# Altium footprint library FootPrint_lib.PcbLib: 24 footprints (part 1 of 2)
Each footprint in its own frame and in the unit in brackets; x right, y up, seen from the top. Pads: shape width x height; smd on the part's side, far side on the other; paste and mask are expansions set on the pad; w line width, h text height; cw(c..) or ccw(c..) is an arc to the next point about the centre after c.
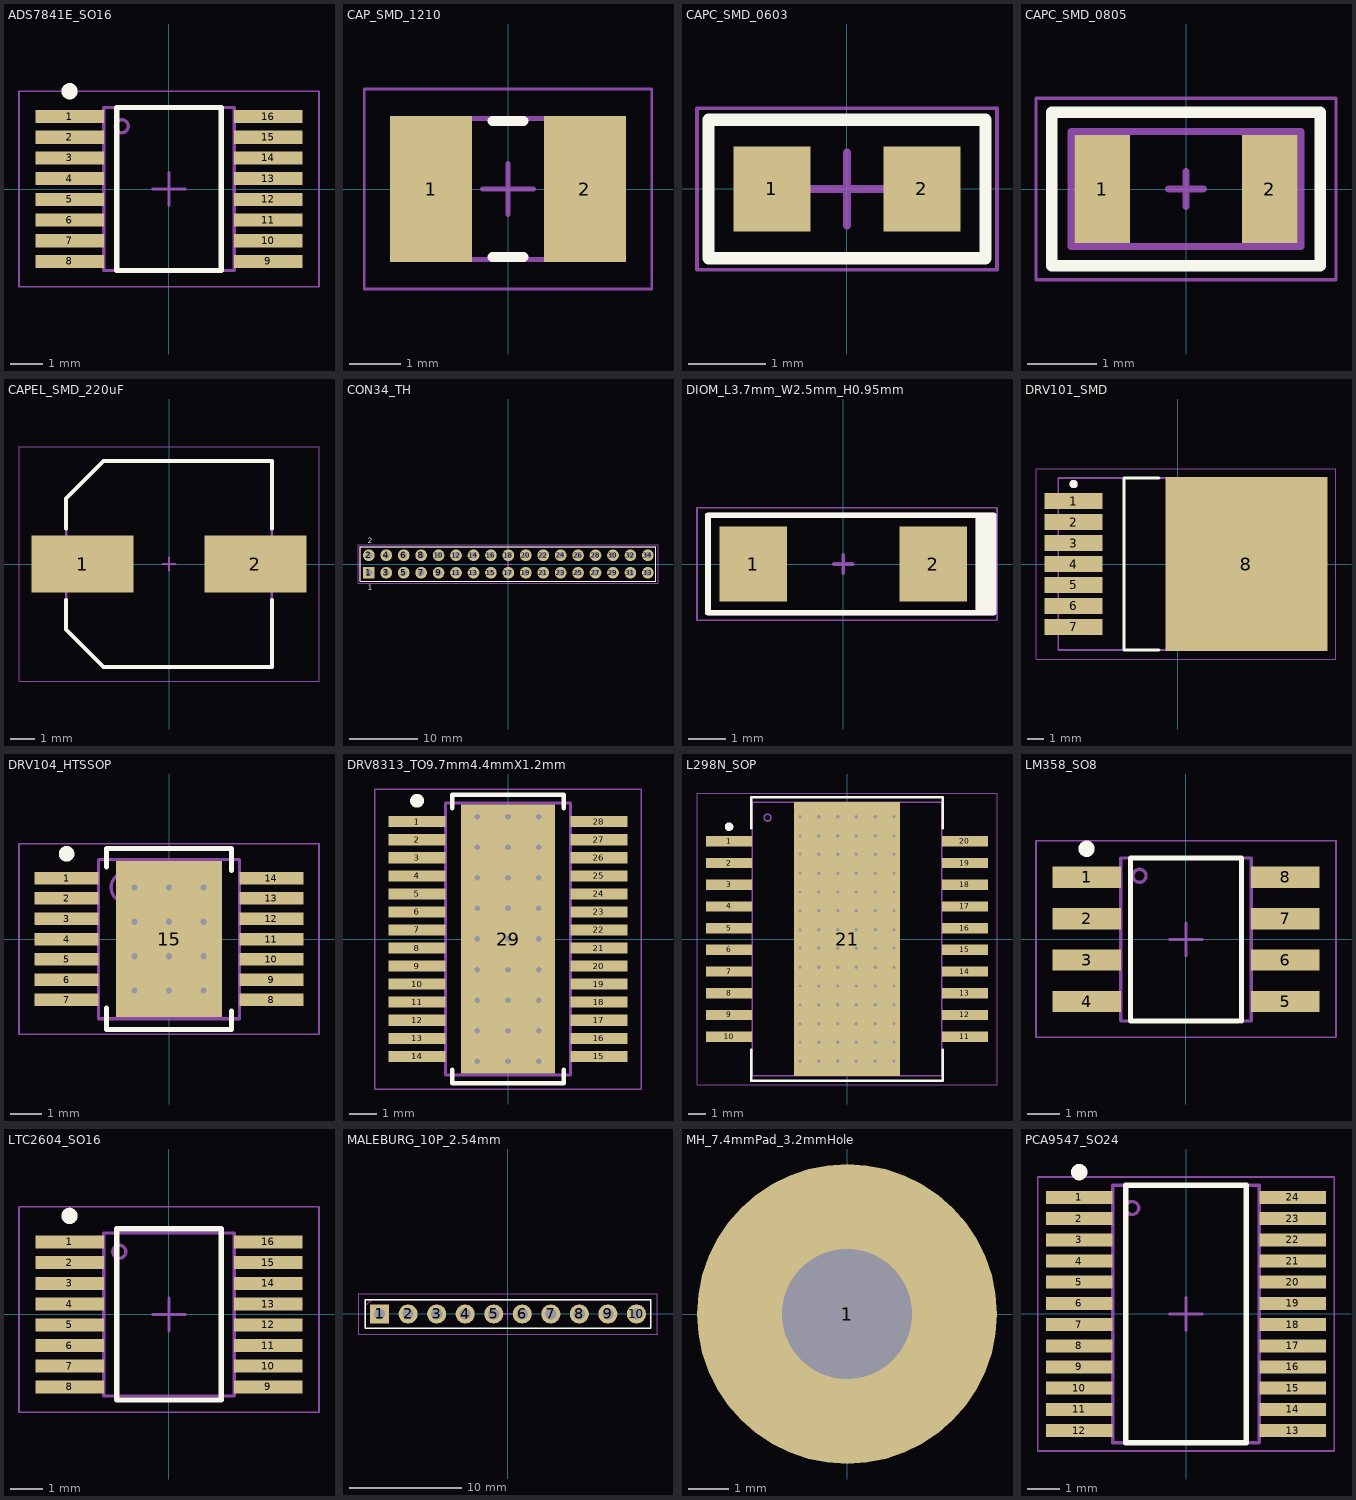
[diagram p0: the footprints below, top view; thin cyan lines are the x and y axes]

## ADS7841E_SO16 [mm]
height 1.75
pads (16):
  rect 2.1x0.4 smd: 1(-3.05,2.222) 2(-3.05,1.587) 3(-3.05,0.953) 4(-3.05,0.318) 5(-3.05,-0.318) 6(-3.05,-0.953) 7(-3.05,-1.587) 8(-3.05,-2.222) 9(3.05,-2.222) 10(3.05,-1.587) 11(3.05,-0.953) 12(3.05,-0.318) 13(3.05,0.318) 14(3.05,0.953) 15(3.05,1.587) 16(3.05,2.222)
Top Overlay:
  circle w0.25: c-3.05,2.997 r0.125
  lines w0.16: -1.6,-2.5 -1.6,2.5 1.6,2.5 1.6,-2.5 -1.6,-2.5
Top Assembly:
  circle w0.1: c-1.45,1.925 r0.2
  lines w0.1: -2,-2.5 -2,2.5 2,2.5 2,-2.5 -2,-2.5
  text "'.Designator'" at -1.921,-0.963 h1.52
Top Courtyard:
  lines w0.05: -4.6,-3 -4.6,3 4.6,3 4.6,-3 -4.6,-3
Top Component Center:
  lines w0.1: -0.5,0 0.5,0 ; 0,-0.5 0,0.5
3D body "SOP127P600-8N.step": height 1.75, standoff 0, extent -3,-2.5 3,2.5

## CAP_SMD_1210 [mm] "Chip Capacitor, 2-Leads, Body 3.20x2.50mm, IPC Low Density"
height 1.7
pads (2):
  rect 1.6x2.85 smd: 1(-1.5,0) 2(1.5,0)
Top Overlay:
  lines w0.2: -0.3,-1.325 0.3,-1.325 ; -0.3,1.325 0.3,1.325
Top Assembly:
  lines w0.1: -1.725,-1.375 1.725,-1.375 1.725,1.375 -1.725,1.375 -1.725,-1.375
Top Courtyard:
  lines w0.05: -2.8,-1.95 2.8,-1.95 2.8,1.95 -2.8,1.95 -2.8,-1.95
Top Component Center:
  lines w0.1: -0.5,0 0.5,0 ; 0,-0.5 0,0.5
3D body "CAP_10uF_1210.step": height 1.7, standoff 0, extent -1.725,-1.375 1.725,1.375

## CAPC_SMD_0603 [mm] "Chip Capacitor, 2-Leads, Body 1.60x0.80mm, IPC Low Density"
height 0.97
pads (2):
  rect 1x1.1 smd: 1(-0.975,0) 2(0.975,0)
Top Overlay:
  lines w0.16: -1.8,-0.9 -1.8,0.9 1.8,0.9 1.8,-0.9 -1.8,-0.9
Top Assembly:
  lines w0.1: -1.8,-0.9 -1.8,0.9 1.8,0.9 1.8,-0.9 -1.8,-0.9
  text "'.Designator'" at -1.646,-0.763 h1.52
Top Courtyard:
  lines w0.05: -1.95,-1.05 1.95,-1.05 1.95,1.05 -1.95,1.05 -1.95,-1.05
Top Component Center:
  lines w0.1: -0.475,0 0.475,0 ; 0,-0.475 0,0.475
3D body "CAPC_SMD_0603.step": height 0.97, standoff 0, extent -0.875,-0.475 0.875,0.475

## CAPC_SMD_0805 [mm] "Chip Capacitor, 2-Leads, Body 2.00x1.25mm, IPC Low Density"
height 1.45
pads (2):
  rect 0.8x1.55 smd: 1(-1.2,0) 2(1.2,0)
Top Overlay:
  lines w0.16: -1.925,-1.1 1.925,-1.1 1.925,1.1 -1.925,1.1 -1.925,-1.1
Top Assembly:
  lines w0.1: -1.65,-0.825 1.65,-0.825 1.65,0.825 -1.65,0.825 -1.65,-0.825
  text "'.Designator'" at -1.371,-0.888 h1.52
Top Courtyard:
  lines w0.05: -2.15,-1.3 2.15,-1.3 2.15,1.3 -2.15,1.3 -2.15,-1.3
Top Component Center:
  lines w0.1: -0.25,0 0.25,0 ; 0,-0.25 0,0.25
3D body "CAP_SMD_0805.step": height 1.45, standoff 0, extent -1.1,-0.725 1.1,0.725

## CAPEL_SMD_220uF [mm] "Aluminum Electrolytic Capacitor, Body 8.30x8.30x10.30mm, IPC Low Density"
height 10.3
pads (2):
  rect 4.2x2.35 smd: 1(-3.575,0) 2(3.575,0)
Top Overlay:
  lines w0.16: -4.25,-1.475 -4.25,-2.713 -2.712,-4.25 4.25,-4.25 4.25,-1.475 ; -4.25,1.475 -4.25,2.712 -2.712,4.25 4.25,4.25 4.25,1.475
Top Assembly:
  lines w0.1: -4.25,-2.713 -4.25,2.712 -2.712,4.25 4.25,4.25 4.25,-4.25 -2.712,-4.25 -4.25,-2.713
  text "'.Designator'" at -3.996,-0.738 h1.52
Top Courtyard:
  lines w0.05: -6.2,-4.85 6.2,-4.85 6.2,4.85 -6.2,4.85 -6.2,-4.85
Top Component Center:
  lines w0.1: -0.25,0 0.25,0 ; 0,-0.25 0,0.25
3D body "CAPEL_SMD_220uF.step": height 10.3, standoff 0, extent -4.55,-4.25 4.55,4.25

## CON34_TH [mm] "43.1mm"
height 12.19
pads (34):
  rect 1.7x1.7 hole 1: 1(-20.32,-1.27)
  round 1.7 hole 1: 2(-20.32,1.27) 3(-17.78,-1.27) 4(-17.78,1.27) 5(-15.24,-1.27) 6(-15.24,1.27) 7(-12.7,-1.27) 8(-12.7,1.27) 9(-10.16,-1.27) 10(-10.16,1.27) 11(-7.62,-1.27) 12(-7.62,1.27) 13(-5.08,-1.27) 14(-5.08,1.27) 15(-2.54,-1.27) 16(-2.54,1.27) 17(0,-1.27) 18(0,1.27) 19(2.54,-1.27) 20(2.54,1.27) 21(5.08,-1.27) 22(5.08,1.27) 23(7.62,-1.27) 24(7.62,1.27) 25(10.16,-1.27) 26(10.16,1.27) 27(12.7,-1.27) 28(12.7,1.27) 29(15.24,-1.27) 30(15.24,1.27) 31(17.78,-1.27) 32(17.78,1.27) 33(20.32,-1.27) 34(20.32,1.27)
Top Overlay:
  lines w0.16: -21.6,-2.5 21.5,-2.5 21.5,2.5 -21.6,2.5 -21.6,-2.5
  text "1" at -20.5,-3.8 h0.8
  text "2" at -20.5,3 h0.8
Top Assembly:
  lines w0.1: -21.6,-2.5 21.5,-2.5 21.5,2.5 -21.6,2.5 -21.6,-2.5
  text "'.Designator'" at -9.846,-0.438 h1.52
Top Courtyard:
  lines w0.05: -21.9,-2.8 -21.9,2.8 21.8,2.8 21.8,-2.8 -21.9,-2.8
Top Component Center:
  lines w0.05: -0.5,0 0.5,0 ; 0,-0.5 0,0.5
3D body "34Pin_2Row_2.54mm-03.10.2020.STEP": height 12.19, standoff -3.81, extent -21.59,-2.415 21.59,2.415

## DIOM_L3.7mm_W2.5mm_H0.95mm [mm] "RFN1LAM7S"
height 0.95
pads (2):
  rect 1.8x2 smd: 1(-2.4,0) 2(2.4,0)
Top Overlay:
  rectangle: 3.6,-1.3 4,1.3
  lines w0.16: 3.6,-1.3 3.6,1.3 ; 3.6,-1.3 -3.6,-1.3 -3.6,1.3 3.6,1.3 ; 3.6,-1.3 4,-1.3 4,1.3 3.6,1.3
Top Assembly:
  rectangle: 3.6,-1.3 4,1.3
  lines w0.16: 3.6,-1.3 3.6,1.3 ; 3.6,-1.3 -3.6,-1.3 -3.6,1.3 3.6,1.3 ; 3.6,-1.3 4,-1.3 4,1.3 3.6,1.3
  text "'.Designator'" at -3.496,-0.738 h1.52
Top Courtyard:
  lines w0.05: -3.9,-1.5 -3.9,1.5 4.1,1.5 4.1,-1.5 -3.9,-1.5
Top Component Center:
  lines w0.1: -0.25,0 0.25,0 ; 0,-0.25 0,0.25

## DRV101_SMD [mm] "D2-PAK, 8-Pads, Body 7.80x8.57mm (max), IPC Medium Density"
height 4.65
pads (8):
  rect 3.5x0.95 smd: 1(-6.3,3.81) 2(-6.3,2.54) 3(-6.3,1.27) 4(-6.3,0) 5(-6.3,-1.27) 6(-6.3,-2.54) 7(-6.3,-3.81)
  rect 9.8x10.5 smd: 8(4.15,0)
Top Overlay:
  circle w0.25: c-6.3,4.835 r0.125
  lines w0.2: -1.15,-5.2 -3.25,-5.2 -3.25,5.2 -1.15,5.2
Top Assembly:
  circle w0.25: c-6.3,4.835 r0.125
  lines w0.1: -7.225,-5.2 7.675,-5.2 7.675,5.2 -7.225,5.2 -7.225,-5.2
  text "'.Designator'" at -7.071,-0.763 h1.52
Top Courtyard:
  lines w0.05: -8.575,-5.775 9.575,-5.775 9.575,5.775 -8.575,5.775 -8.575,-5.775
Top Component Center:
  lines w0.1: -0.5,0 0.5,0 ; 0,-0.5 0,0.5
3D body "DRV101_SMD.step": height 4.95, standoff 0, extent -7.397,-5.2 7.843,5.2

## DRV104_HTSSOP [mm] "TSOP, 14-Leads, Body 5.00x4.40mm, Pitch 0.65mm, Thermal Pad 5.00x3.40mm, IPC Low Density"
height 1.2
pads (15):
  rect 2.05x0.4 smd: 1(-3.275,1.95) 2(-3.275,1.3) 3(-3.275,0.65) 4(-3.275,0) 5(-3.275,-0.65) 6(-3.275,-1.3) 7(-3.275,-1.95) 8(3.275,-1.95) 9(3.275,-1.3) 10(3.275,-0.65) 11(3.275,0) 12(3.275,0.65) 13(3.275,1.3) 14(3.275,1.95)
  rect 3.4x5 smd: 15(0,0)
via 0,-0.55 diameter 0.5 hole 0.2
via -1.1,-0.55 diameter 0.5 hole 0.2
via 0,0.55 diameter 0.5 hole 0.2
via 0,1.65 diameter 0.5 hole 0.2
via -1.1,1.65 diameter 0.5 hole 0.2
via -1.1,0.55 diameter 0.5 hole 0.2
via -1.1,-1.65 diameter 0.5 hole 0.2
via 0,-1.65 diameter 0.5 hole 0.2
via 1.1,-1.65 diameter 0.5 hole 0.2
via 1.1,-0.55 diameter 0.5 hole 0.2
via 1.1,0.55 diameter 0.5 hole 0.2
via 1.1,1.65 diameter 0.5 hole 0.2
Top Overlay:
  circle w0.25: c-3.275,2.725 r0.125
  lines w0.16: -2,-2.2 -2,-2.7 -2,-2.9 2,-2.9 2,-2.3 ; -2,2.3 -2,2.9 2,2.9 2,2.7 2,2.2
Top Assembly:
  circle w0.1: c-1.35,1.65 r0.5
  lines w0.1: -2.25,-2.55 2.25,-2.55 2.25,2.55 -2.25,2.55 -2.25,-2.55
Top Courtyard:
  lines w0.05: -4.8,-3.05 4.8,-3.05 4.8,3.05 -4.8,3.05 -4.8,-3.05
Top Component Center:
  lines w0.1: -0.5,0 0.5,0 ; 0,-0.5 0,0.5
3D body "DRV104_HTSSOP.step": height 1.2, standoff 0, extent -3.2,-2.55 3.2,2.55

## DRV8313_TO9.7mm4.4mmX1.2mm [mm] "TSOP, 28-Leads, Body 9.70x4.40mm, Pitch 0.65mm, Thermal Pad 9.70x3.40mm, IPC Low Density"
height 1.2
pads (29):
  rect 2.05x0.4 smd: 1(-3.275,4.225) 2(-3.275,3.575) 3(-3.275,2.925) 4(-3.275,2.275) 5(-3.275,1.625) 6(-3.275,0.975) 7(-3.275,0.325) 8(-3.275,-0.325) 9(-3.275,-0.975) 10(-3.275,-1.625) 11(-3.275,-2.275) 12(-3.275,-2.925) 13(-3.275,-3.575) 14(-3.275,-4.225) 15(3.275,-4.225) 16(3.275,-3.575) 17(3.275,-2.925) 18(3.275,-2.275) 19(3.275,-1.625) 20(3.275,-0.975) 21(3.275,-0.325) 22(3.275,0.325) 23(3.275,0.975) 24(3.275,1.625) 25(3.275,2.275) 26(3.275,2.925) 27(3.275,3.575) 28(3.275,4.225)
  rect 3.4x9.7 smd: 29(0,0)
via -1.1,4.4 diameter 0.5 hole 0.2
via 0,4.4 diameter 0.5 hole 0.2
via 1.1,4.4 diameter 0.5 hole 0.2
via -1.1,3.3 diameter 0.5 hole 0.2
via 0,3.3 diameter 0.5 hole 0.2
via 1.1,3.3 diameter 0.5 hole 0.2
via -1.1,2.2 diameter 0.5 hole 0.2
via 0,2.2 diameter 0.5 hole 0.2
via 1.1,2.2 diameter 0.5 hole 0.2
via -1.1,1.1 diameter 0.5 hole 0.2
via 0,1.1 diameter 0.5 hole 0.2
via 1.1,1.1 diameter 0.5 hole 0.2
via -1.1,0 diameter 0.5 hole 0.2
via 0,0 diameter 0.5 hole 0.2
via 1.1,0 diameter 0.5 hole 0.2
via -1.1,-1.1 diameter 0.5 hole 0.2
via 0,-1.1 diameter 0.5 hole 0.2
via 1.1,-1.1 diameter 0.5 hole 0.2
via -1.1,-2.2 diameter 0.5 hole 0.2
via 0,-2.2 diameter 0.5 hole 0.2
via 1.1,-2.2 diameter 0.5 hole 0.2
via -1.1,-3.3 diameter 0.5 hole 0.2
via 0,-3.3 diameter 0.5 hole 0.2
via 1.1,-3.3 diameter 0.5 hole 0.2
via -1.1,-4.4 diameter 0.5 hole 0.2
via 0,-4.4 diameter 0.5 hole 0.2
via 1.1,-4.4 diameter 0.5 hole 0.2
Top Overlay:
  circle w0.25: c-3.275,4.975 r0.125
  lines w0.16: -2,-4.7 -2,-5.2 2,-5.2 2,-4.7 ; -2,4.7 -2,5.2 2,5.2 2,4.7
Top Assembly:
  circle w0.1: c-1.35,4 r0.2
  lines w0.1: -2.25,-4.9 -2.25,4.9 2.25,4.9 2.25,-4.9 -2.25,-4.9
  text "'.Designator'" at -2.121,-0.788 h1.52
Top Courtyard:
  lines w0.05: -4.8,-5.4 -4.8,5.4 4.8,5.4 4.8,-5.4 -4.8,-5.4
Top Component Center:
  lines w0.1: -0.5,0 0.5,0 ; 0,-0.5 0,0.5
3D body "DRV8313_TO9.7mm4.4mmX1.2mm.step": height 1.2, standoff 0, extent -3.2,-4.9 3.2,4.9

## L298N_SOP [mm] "SOP, 20-Leads, Body 15.90x11.00mm, Pitch 1.27mm, Thermal Pad 16.00x6.20mm, IPC Medium Density"
height 3.6
pads (21):
  rect 2.7x0.6 smd: 1(-6.9,5.715) 2(-6.9,4.445) 3(-6.9,3.175) 4(-6.9,1.905) 5(-6.9,0.635) 6(-6.9,-0.635) 7(-6.9,-1.905) 8(-6.9,-3.175) 9(-6.9,-4.445) 10(-6.9,-5.715) 11(6.9,-5.715) 12(6.9,-4.445) 13(6.9,-3.175) 14(6.9,-1.905) 15(6.9,-0.635) 16(6.9,0.635) 17(6.9,1.905) 18(6.9,3.175) 19(6.9,4.445) 20(6.9,5.715)
  rect 6.2x16 smd: 21(0,0)
via 2.75,-7.15 diameter 0.5 hole 0.2
via 1.65,-7.15 diameter 0.5 hole 0.2
via 0.55,-7.15 diameter 0.5 hole 0.2
via -0.55,-7.15 diameter 0.5 hole 0.2
via -1.65,-7.15 diameter 0.5 hole 0.2
via -2.75,-7.15 diameter 0.5 hole 0.2
via 2.75,-6.05 diameter 0.5 hole 0.2
via 1.65,-6.05 diameter 0.5 hole 0.2
via 0.55,-6.05 diameter 0.5 hole 0.2
via -0.55,-6.05 diameter 0.5 hole 0.2
via -1.65,-6.05 diameter 0.5 hole 0.2
via -2.75,-6.05 diameter 0.5 hole 0.2
via 2.75,-4.95 diameter 0.5 hole 0.2
via 1.65,-4.95 diameter 0.5 hole 0.2
via 0.55,-4.95 diameter 0.5 hole 0.2
via -0.55,-4.95 diameter 0.5 hole 0.2
via -1.65,-4.95 diameter 0.5 hole 0.2
via -2.75,-4.95 diameter 0.5 hole 0.2
via 2.75,-3.85 diameter 0.5 hole 0.2
via 1.65,-3.85 diameter 0.5 hole 0.2
via 0.55,-3.85 diameter 0.5 hole 0.2
via -0.55,-3.85 diameter 0.5 hole 0.2
via -1.65,-3.85 diameter 0.5 hole 0.2
via -2.75,-3.85 diameter 0.5 hole 0.2
via 2.75,-2.75 diameter 0.5 hole 0.2
via 1.65,-2.75 diameter 0.5 hole 0.2
via 0.55,-2.75 diameter 0.5 hole 0.2
via -0.55,-2.75 diameter 0.5 hole 0.2
via -1.65,-2.75 diameter 0.5 hole 0.2
via -2.75,-2.75 diameter 0.5 hole 0.2
via 2.75,-1.65 diameter 0.5 hole 0.2
via 1.65,-1.65 diameter 0.5 hole 0.2
via 0.55,-1.65 diameter 0.5 hole 0.2
via -0.55,-1.65 diameter 0.5 hole 0.2
via -1.65,-1.65 diameter 0.5 hole 0.2
via -2.75,-1.65 diameter 0.5 hole 0.2
via 2.75,-0.55 diameter 0.5 hole 0.2
via 1.65,-0.55 diameter 0.5 hole 0.2
via 0.55,-0.55 diameter 0.5 hole 0.2
via -0.55,-0.55 diameter 0.5 hole 0.2
via -1.65,-0.55 diameter 0.5 hole 0.2
via -2.75,-0.55 diameter 0.5 hole 0.2
via 2.75,0.55 diameter 0.5 hole 0.2
via 1.65,0.55 diameter 0.5 hole 0.2
via 0.55,0.55 diameter 0.5 hole 0.2
via -0.55,0.55 diameter 0.5 hole 0.2
via -1.65,0.55 diameter 0.5 hole 0.2
via -2.75,0.55 diameter 0.5 hole 0.2
via 2.75,1.65 diameter 0.5 hole 0.2
via 1.65,1.65 diameter 0.5 hole 0.2
via 0.55,1.65 diameter 0.5 hole 0.2
via -0.55,1.65 diameter 0.5 hole 0.2
via -1.65,1.65 diameter 0.5 hole 0.2
via -2.75,1.65 diameter 0.5 hole 0.2
via 2.75,2.75 diameter 0.5 hole 0.2
via 1.65,2.75 diameter 0.5 hole 0.2
via 0.55,2.75 diameter 0.5 hole 0.2
via -0.55,2.75 diameter 0.5 hole 0.2
via -1.65,2.75 diameter 0.5 hole 0.2
via -2.75,2.75 diameter 0.5 hole 0.2
via 2.75,3.85 diameter 0.5 hole 0.2
via 1.65,3.85 diameter 0.5 hole 0.2
via 0.55,3.85 diameter 0.5 hole 0.2
via -0.55,3.85 diameter 0.5 hole 0.2
via -1.65,3.85 diameter 0.5 hole 0.2
via -2.75,3.85 diameter 0.5 hole 0.2
via 2.75,4.95 diameter 0.5 hole 0.2
via 1.65,4.95 diameter 0.5 hole 0.2
via 0.55,4.95 diameter 0.5 hole 0.2
via -0.55,4.95 diameter 0.5 hole 0.2
via -1.65,4.95 diameter 0.5 hole 0.2
via -2.75,4.95 diameter 0.5 hole 0.2
via 2.75,6.05 diameter 0.5 hole 0.2
via 1.65,6.05 diameter 0.5 hole 0.2
via 0.55,6.05 diameter 0.5 hole 0.2
via -0.55,6.05 diameter 0.5 hole 0.2
via -1.65,6.05 diameter 0.5 hole 0.2
via -2.75,6.05 diameter 0.5 hole 0.2
via 2.75,7.15 diameter 0.5 hole 0.2
via 1.65,7.15 diameter 0.5 hole 0.2
via 0.55,7.15 diameter 0.5 hole 0.2
via -0.55,7.15 diameter 0.5 hole 0.2
via -1.65,7.15 diameter 0.5 hole 0.2
via -2.75,7.15 diameter 0.5 hole 0.2
Top Overlay:
  circle w0.25: c-6.9,6.565 r0.125
  lines w0.16: -5.6,-6.5 -5.6,-8.3 5.6,-8.3 5.6,-6.5 ; -5.6,6.5 -5.6,8.3 5.6,8.3 5.6,6.5
Top Assembly:
  circle w0.1: c-4.65,7.1 r0.2
  lines w0.1: -5.55,-8 5.55,-8 5.55,8 -5.55,8 -5.55,-8
  text "'.Designator'" at -5.446,-0.638 h1.52
Top Courtyard:
  lines w0.05: -8.775,-8.525 8.775,-8.525 8.775,8.525 -8.775,8.525 -8.775,-8.525
Top Component Center:
  lines w0.1: -0.5,0 0.5,0 ; 0,-0.5 0,0.5
3D body "L298N_SOP.step": height 3.6, standoff 0, extent -7.1,-8 7.1,8

## LM358_SO8 [mm] "SOP, 8-Leads, Body 4.90x3.90mm, Pitch 1.27mm, IPC Low Density"
height 1.75
pads (8):
  rect 2.1x0.65 smd: 1(-3.05,1.905) 2(-3.05,0.635) 3(-3.05,-0.635) 4(-3.05,-1.905) 5(3.05,-1.905) 6(3.05,-0.635) 7(3.05,0.635) 8(3.05,1.905)
Top Overlay:
  circle w0.25: c-3.05,2.78 r0.125
  lines w0.16: 1.6,-2.5 -1.7,-2.5 -1.7,2.5 1.7,2.5 1.7,-2.5
Top Assembly:
  circle w0.1: c-1.425,1.95 r0.2
  lines w0.1: -2,-2.5 2,-2.5 2,2.5 -2,2.5 -2,-2.5
  text "'.Designator'" at -1.871,-0.913 h1.52
Top Courtyard:
  lines w0.05: -4.6,-3 4.6,-3 4.6,3.025 -4.6,3.025 -4.6,-3
Top Component Center:
  lines w0.1: -0.5,0 0.5,0 ; 0,-0.5 0,0.5
3D body "LM358_SO8.step": height 1.75, standoff 0, extent -3,-2.5 3,2.5

## LTC2604_SO16 [mm] "SOP, 16-Leads, Body 4.89x3.90mm, Pitch 0.64mm, IPC Low Density"
height 1.75
pads (16):
  rect 2.1x0.4 smd: 1(-3.05,2.222) 2(-3.05,1.587) 3(-3.05,0.953) 4(-3.05,0.318) 5(-3.05,-0.318) 6(-3.05,-0.953) 7(-3.05,-1.587) 8(-3.05,-2.222) 9(3.05,-2.222) 10(3.05,-1.587) 11(3.05,-0.953) 12(3.05,-0.318) 13(3.05,0.318) 14(3.05,0.953) 15(3.05,1.587) 16(3.05,2.222)
Top Overlay:
  circle w0.25: c-3.05,3.023 r0.125
  lines w0.16: -1.6,-2.625 -1.6,2.625 1.6,2.625 1.6,-2.625 -1.6,-2.625
Top Assembly:
  circle w0.1: c-1.525,1.925 r0.2
  lines w0.1: -2,-2.5 -2,2.5 2,2.5 2,-2.5 -2,-2.5
  text "'.Designator'" at -1.921,-0.963 h1.52
  text "'.Designator'" at -1.896,-0.938 h1.52
Top Courtyard:
  lines w0.05: -4.6,-3 -4.6,3.3 4.6,3.3 4.6,-3 -4.6,-3
Top Component Center:
  lines w0.1: -0.5,0 0.5,0 ; 0,-0.5 0,0.5
3D body "LTC2604_SO16.step": height 1.75, standoff 0, extent -3.004,-2.5 3.004,2.5

## MALEBURG_10P_2.54mm [mm] "P2.54mm_L25.4mm_W2.54mm_H5.78mm"
height 5.78
pads (10):
  rect 1.7x1.7 hole 1: 1(-11.43,0)
  round 1.7 hole 1: 2(-8.89,0) 3(-6.35,0) 4(-3.81,0) 5(-1.27,0) 6(1.27,0) 7(3.81,0) 8(6.35,0) 9(8.89,0) 10(11.43,0)
Top Overlay:
  lines w0.16: -12.7,-1.27 -12.7,1.27 12.7,1.27 12.7,-1.27 -12.7,-1.27
Top Assembly:
  lines w0.1: -12.7,0.8 -12.145,1.244 ; -12.7,-1.27 -12.7,1.27 12.7,1.27 12.7,-1.27 -12.7,-1.27
  text "'.Designator'" at -7.366,-0.508 h1.52
Top Courtyard:
  lines w0.05: -13.35,-1.8 13.35,-1.8 ; -13.35,1.8 13.35,1.8 ; -13.3,-1.8 -13.3,1.8 ; 13.3,-1.8 13.3,1.8
Top Component Center:
  lines w0.1: -0.5,0 0.5,0 ; 0,-0.5 0,0.5

## MH_7.4mmPad_3.2mmHole [mm] "Mouting Hole, Hole Dia 3.2mm, Pad Dia 7.4mm"
height 0.01
pads (1):
  round 7.4 hole 3.2: 1(0,0)

## PCA9547_SO24 [mm] "TSOP, 24-Leads, Body 7.80x4.40mm, Pitch 0.65mm, IPC Medium Density"
height 1.1
pads (24):
  rect 2.05x0.4 smd: 1(-3.275,3.575) 2(-3.275,2.925) 3(-3.275,2.275) 4(-3.275,1.625) 5(-3.275,0.975) 6(-3.275,0.325) 7(-3.275,-0.325) 8(-3.275,-0.975) 9(-3.275,-1.625) 10(-3.275,-2.275) 11(-3.275,-2.925) 12(-3.275,-3.575) 13(3.275,-3.575) 14(3.275,-2.925) 15(3.275,-2.275) 16(3.275,-1.625) 17(3.275,-0.975) 18(3.275,-0.325) 19(3.275,0.325) 20(3.275,0.975) 21(3.275,1.625) 22(3.275,2.275) 23(3.275,2.925) 24(3.275,3.575)
Top Overlay:
  circle w0.25: c-3.275,4.35 r0.125
  lines w0.16: -1.85,-3.95 -1.85,3.95 1.85,3.95 1.85,-3.95 -1.85,-3.95
Top Assembly:
  circle w0.1: c-1.65,3.25 r0.2
  lines w0.1: -2.25,-3.95 -2.25,3.95 2.25,3.95 2.25,-3.95 -2.25,-3.95
  text "'.Designator'" at -2.046,-0.838 h1.52
Top Courtyard:
  lines w0.05: -4.55,-4.2 -4.55,4.2 4.55,4.2 4.55,-4.2 -4.55,-4.2
Top Component Center:
  lines w0.1: -0.5,0 0.5,0 ; 0,-0.5 0,0.5
3D body "TSOP65P640X110-24.step": height 1.1, standoff 0, extent -3.2,-3.95 3.2,3.95